# Altium footprint library CR2477.PcbLib: 1 footprints
Each footprint in its own frame and in the unit in brackets; x right, y up, seen from the top. Pads: shape width x height; smd on the part's side, far side on the other; paste and mask are expansions set on the pad; w line width, h text height; cw(c..) or ccw(c..) is an arc to the next point about the centre after c.
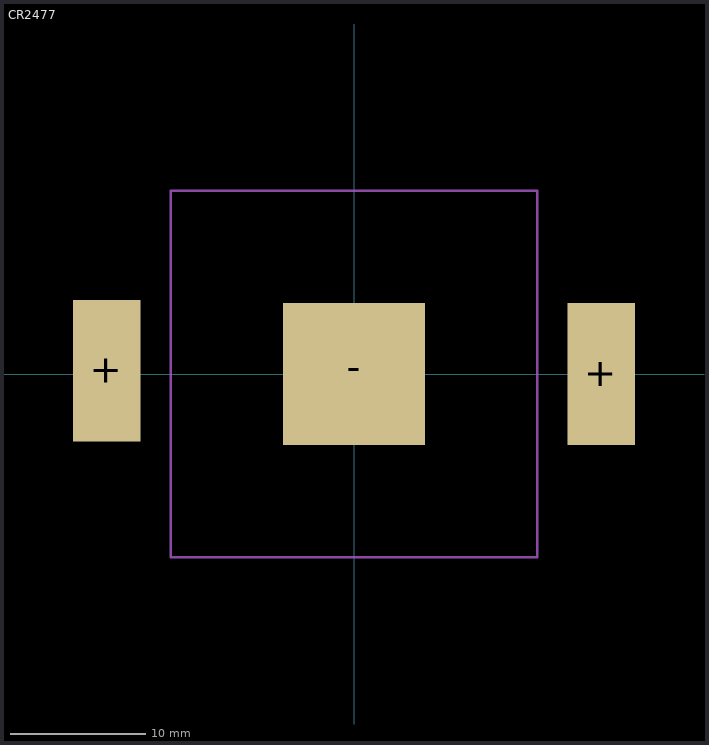
[diagram p0: the footprint, top view; thin cyan lines are the x and y axes]

## CR2477 [mm] "CR2477 Clip"
pads (3):
  rect 5x10.5 smd: +(-18.35,0.254) +(18.35,0)
  rect 10.5x10.5 smd: -(0,0)
Mechanical 1:
  lines w0.2: -13.6,-13.6 -13.6,13.6 13.6,13.6 13.6,-13.6 -13.6,-13.6
3D body: height 8.7, standoff 0, extent -13.7,-13.7 13.7,13.7